# EAGLE library part 500SDP1S1M2QEA (library custom_parts)
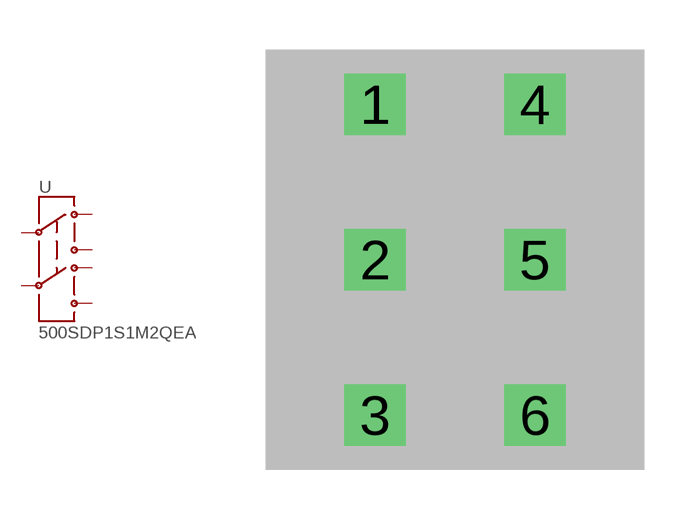
[diagram p5: symbol with the pads of 500SDP1S1M2QEA; footprint 500SDP1S1M2QEA]

Designator prefix -

## 500SDP1S1M2QEA  [500SDP1S1M2QEA]
1  1
2  2
3  3
4  4
5  5
6  6

## Footprint 500SDP1S1M2QEA (pad centres in mm)
drill 0.8 pad 1.854 square: 1 -2.413,4.699; 2 -2.413,0; 3 -2.413,-4.699; 4 2.413,4.699; 5 2.413,0; 6 2.413,-4.699